# EAGLE library part PIC18F65K22 (library baseOauth)
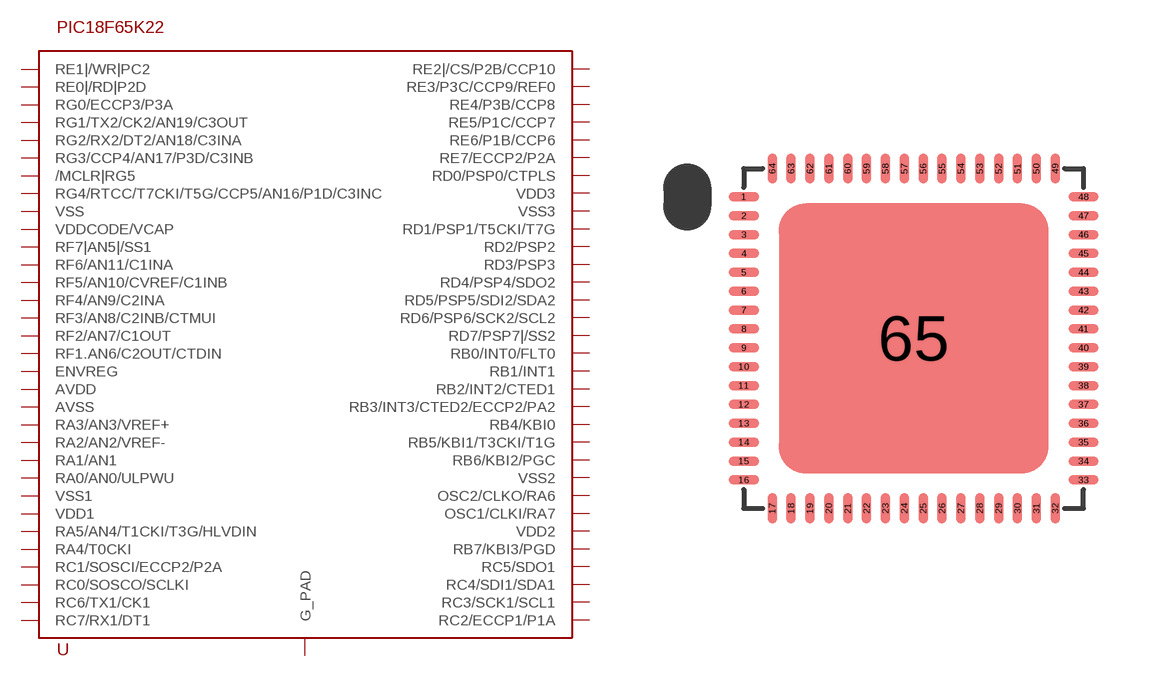
[diagram p1: symbol with the pads of 64-LEADPLASTICQUADFLAT-9X9MM; footprint 64-LEADPLASTICQUADFLAT-9X9MM]

Designator prefix -

## PIC18F65K22  [64-LEADPLASTICQUADFLAT-9X9MM]
1  RE1|/WR|PC2
2  RE0|/RD|P2D
3  RG0/ECCP3/P3A
4  RG1/TX2/CK2/AN19/C3OUT
5  RG2/RX2/DT2/AN18/C3INA
6  RG3/CCP4/AN17/P3D/C3INB
7  /MCLR|RG5
8  RG4/RTCC/T7CKI/T5G/CCP5/AN16/P1D/C3INC
9  VSS
10  VDDCODE/VCAP
11  RF7|AN5|/SS1
12  RF6/AN11/C1INA
13  RF5/AN10/CVREF/C1INB
14  RF4/AN9/C2INA
15  RF3/AN8/C2INB/CTMUI
16  RF2/AN7/C1OUT
17  RF1.AN6/C2OUT/CTDIN
18  ENVREG
19  AVDD
20  AVSS
21  RA3/AN3/VREF+
22  RA2/AN2/VREF-
23  RA1/AN1
24  RA0/AN0/ULPWU
25  VSS1
26  VDD1
27  RA5/AN4/T1CKI/T3G/HLVDIN
28  RA4/T0CKI
29  RC1/SOSCI/ECCP2/P2A
30  RC0/SOSCO/SCLKI
31  RC6/TX1/CK1
32  RC7/RX1/DT1
33  RC2/ECCP1/P1A
34  RC3/SCK1/SCL1
35  RC4/SDI1/SDA1
36  RC5/SDO1
37  RB7/KBI3/PGD
38  VDD2
39  OSC1/CLKI/RA7
40  OSC2/CLKO/RA6
41  VSS2
42  RB6/KBI2/PGC
43  RB5/KBI1/T3CKI/T1G
44  RB4/KBI0
45  RB3/INT3/CTED2/ECCP2/PA2
46  RB2/INT2/CTED1
47  RB1/INT1
48  RB0/INT0/FLT0
49  RD7/PSP7|/SS2
50  RD6/PSP6/SCK2/SCL2
51  RD5/PSP5/SDI2/SDA2
52  RD4/PSP4/SDO2
53  RD3/PSP3
54  RD2/PSP2
55  RD1/PSP1/T5CKI/T7G
56  VSS3
57  VDD3
58  RD0/PSP0/CTPLS
59  RE7/ECCP2/P2A
60  RE6/P1B/CCP6
61  RE5/P1C/CCP7
62  RE4/P3B/CCP8
63  RE3/P3C/CCP9/REF0
64  RE2|/CS/P2B/CCP10
65  G_PAD

## Footprint 64-LEADPLASTICQUADFLAT-9X9MM (pad centres in mm)
smd 0.8 x 0.25: 1 -4.5,3.75; 2 -4.5,3.25; 3 -4.5,2.75; 4 -4.5,2.25; 5 -4.5,1.75; 6 -4.5,1.25; 7 -4.5,0.75; 8 -4.5,0.25; 9 -4.5,-0.25; 10 -4.5,-0.75; 11 -4.5,-1.25; 12 -4.5,-1.75; 13 -4.5,-2.25; 14 -4.5,-2.75; 15 -4.5,-3.25; 16 -4.5,-3.75; 33 4.5,-3.75; 34 4.5,-3.25; 35 4.5,-2.75; 36 4.5,-2.25; 37 4.5,-1.75; 38 4.5,-1.25; 39 4.5,-0.75; 40 4.5,-0.25; 41 4.5,0.25; 42 4.5,0.75; 43 4.5,1.25; 44 4.5,1.75; 45 4.5,2.25; 46 4.5,2.75; 47 4.5,3.25; 48 4.5,3.75
smd 0.25 x 0.8: 17 -3.75,-4.5; 18 -3.25,-4.5; 19 -2.75,-4.5; 20 -2.25,-4.5; 21 -1.75,-4.5; 22 -1.25,-4.5; 23 -0.75,-4.5; 24 -0.25,-4.5; 25 0.25,-4.5; 26 0.75,-4.5; 27 1.25,-4.5; 28 1.75,-4.5; 29 2.25,-4.5; 30 2.75,-4.5; 31 3.25,-4.5; 32 3.75,-4.5; 49 3.75,4.5; 50 3.25,4.5; 51 2.75,4.5; 52 2.25,4.5; 53 1.75,4.5; 54 1.25,4.5; 55 0.75,4.5; 56 0.25,4.5; 57 -0.25,4.5; 58 -0.75,4.5; 59 -1.25,4.5; 60 -1.75,4.5; 61 -2.25,4.5; 62 -2.75,4.5; 63 -3.25,4.5; 64 -3.75,4.5
smd 7.15 x 7.15: 65 0,0